# EAGLE library part CBTL12131 (library nxp_60)
DisplayPort multiplexer for bidirectional video AAL Eindhoven MK
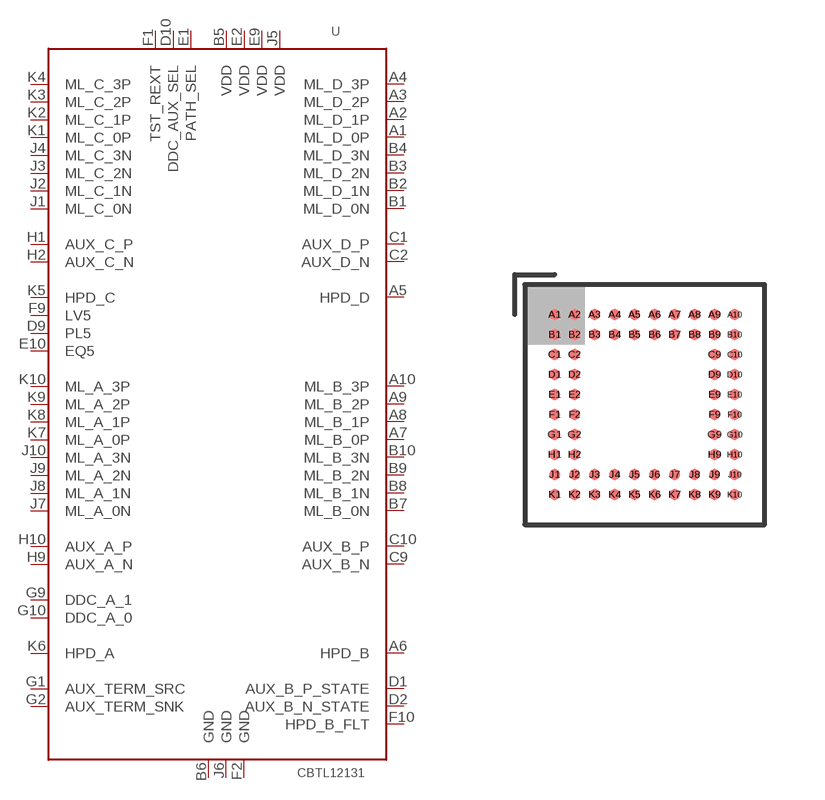
[diagram p33: symbol with the pads of SOT543-1; footprint SOT543-1]

Designator prefix U

## CBTL12131ET  [SOT543-1]
A1  ML_D_0P
A2  ML_D_1P
A3  ML_D_2P
A4  ML_D_3P
A5  HPD_D  in
A6  HPD_B
A7  ML_B_0P
A8  ML_B_1P
A9  ML_B_2P
A10  ML_B_3P
B1  ML_D_0N
B2  ML_D_1N
B3  ML_D_2N
B4  ML_D_3N
B5  VDD  pwr
B6  GND  pwr
B7  ML_B_0N
B8  ML_B_1N
B9  ML_B_2N
B10  ML_B_3N
C1  AUX_D_P
C2  AUX_D_N
C9  AUX_B_N
C10  AUX_B_P
D1  AUX_B_P_STATE  out
D2  AUX_B_N_STATE  out
D9  PL5  in
D10  DDC_AUX_SEL  in
E1  PATH_SEL  in
E2  VDD  pwr
E9  VDD  pwr
E10  EQ5  in
F1  TST_REXT  in
F2  GND  pwr
F9  LV5  in
F10  HPD_B_FLT  out
G1  AUX_TERM_SRC  in
G2  AUX_TERM_SNK  in
G9  DDC_A_1
G10  DDC_A_0
H1  AUX_C_P
H2  AUX_C_N
H9  AUX_A_N
H10  AUX_A_P
J1  ML_C_0N
J2  ML_C_1N
J3  ML_C_2N
J4  ML_C_3N
J5  VDD  pwr
J6  GND  pwr
J7  ML_A_0N
J8  ML_A_1N
J9  ML_A_2N
J10  ML_A_3N
K1  ML_C_0P
K2  ML_C_1P
K3  ML_C_2P
K4  ML_C_3P
K5  HPD_C  out
K6  HPD_A  out
K7  ML_A_0P
K8  ML_A_1P
K9  ML_A_2P
K10  ML_A_3P

## Footprint SOT543-1 (pad centres in mm)
SOT543-1 TFBGA64: plastic thin fine-pitch ball grid array package; 64 balls; body 6 x 6 x 0.8 mm JEDEC: MO195 IEC: --
smd 0.275 x 0.275: A1 -2.25,2.25; A2 -1.75,2.25; A3 -1.25,2.25; A4 -0.75,2.25; A5 -0.25,2.25; A6 0.25,2.25; A7 0.75,2.25; A8 1.25,2.25; A9 1.75,2.25; A10 2.25,2.25; B1 -2.25,1.75; B2 -1.75,1.75; B3 -1.25,1.75; B4 -0.75,1.75; B5 -0.25,1.75; B6 0.25,1.75; B7 0.75,1.75; B8 1.25,1.75; B9 1.75,1.75; B10 2.25,1.75; C1 -2.25,1.25; C2 -1.75,1.25; C9 1.75,1.25; C10 2.25,1.25; D1 -2.25,0.75; D2 -1.75,0.75; D9 1.75,0.75; D10 2.25,0.75; E1 -2.25,0.25; E2 -1.75,0.25; E9 1.75,0.25; E10 2.25,0.25; F1 -2.25,-0.25; F2 -1.75,-0.25; F9 1.75,-0.25; F10 2.25,-0.25; G1 -2.25,-0.75; G2 -1.75,-0.75; G9 1.75,-0.75; G10 2.25,-0.75; H1 -2.25,-1.25; H2 -1.75,-1.25; H9 1.75,-1.25; H10 2.25,-1.25; J1 -2.25,-1.75; J2 -1.75,-1.75; J3 -1.25,-1.75; J4 -0.75,-1.75; J5 -0.25,-1.75; J6 0.25,-1.75; J7 0.75,-1.75; J8 1.25,-1.75; J9 1.75,-1.75; J10 2.25,-1.75; K1 -2.25,-2.25; K2 -1.75,-2.25; K3 -1.25,-2.25; K4 -0.75,-2.25; K5 -0.25,-2.25; K6 0.25,-2.25; K7 0.75,-2.25; K8 1.25,-2.25; K9 1.75,-2.25; K10 2.25,-2.25